# Altium schematic symbol library SK-3245S-L1-A.SchLib: 1 symbol
Pins are listed as number, name and electrical type; pins without a type are passive.

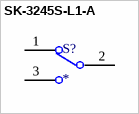
[diagram p0: symbol SK-3245S-L1-A]

## SK-3245S-L1-A
designator S?
Surface Mount 50mA DPDT 3.2mm 12V 9.1mm 12V 3.55mm 50mA 10000 SMDSplicing Rectangular columnar -40℃~+85℃ Black SMD Slide Switches ROHS; Manufacturer: XKB Connectivity; Mfr. Part #: SK-3245S-L1-A; Package: SMD; Datasheet: https://datasheet.lcsc.com/lcsc/2002271841_XKB-Connectivity-SK-3245S-L1-A_C405951.pdf; LCSC Part #: C405951
footprint SK3245SL1A
pins: 1, 2, 3